# EAGLE library part LOGIC,CLOCK_BUFFER,1TO4#1 (library QuantumOptics)
Clock driver, 1:4, diff I/O, per channel enables, such as IDT ICS854104AGLF.
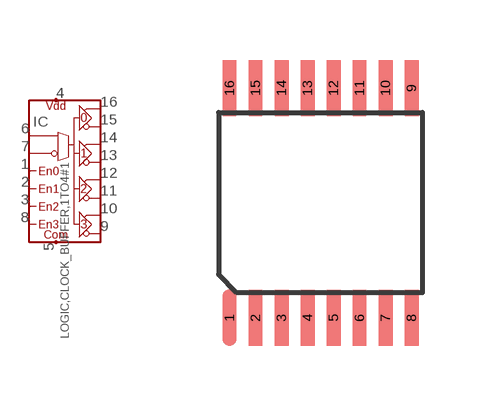
[diagram p179: symbol with the pads of TSSOP-16; footprint TSSOP-16]

Designator prefix IC

## LOGIC,CLOCK_BUFFER,1TO4#1-TSSOP16  [TSSOP-16]
1  EN0  in
2  EN1  in
3  EN2  in
4  VDD
5  COM
6  IN+  in
7  IN-  in
8  EN3  in
9  Q3-  out
10  Q3+  out
11  Q2-  out
12  Q2+  out
13  Q1-  out
14  Q1+  out
15  Q0-  out
16  Q0+  out

## Footprint TSSOP-16 (pad centres in mm)
TSSOP-16, based on Maxim with 4.4mm body.
smd 0.35 x 1.4: 1 -2.275,-2.875; 2 -1.625,-2.875; 3 -0.975,-2.875; 4 -0.325,-2.875; 5 0.325,-2.875; 6 0.975,-2.875; 7 1.625,-2.875; 8 2.275,-2.875; 9 2.275,2.875; 10 1.625,2.875; 11 0.975,2.875; 12 0.325,2.875; 13 -0.325,2.875; 14 -0.975,2.875; 15 -1.625,2.875; 16 -2.275,2.875